# Altium schematic symbol library WK73R2ATTD1212F.SchLib: 1 symbol
Pins are listed as number, name and electrical type; pins without a type are passive.

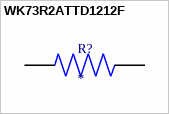
[diagram p0: symbol WK73R2ATTD1212F]

## WK73R2ATTD1212F
designator R?
MP: WK73R2ATTD1212F; Package: None; Price: None; Value: *; Availability: Unavailable
footprint RESC1220X65N
pins: 1, 2